# EAGLE library part AT91SAM7X (library at91sam7x-ek)
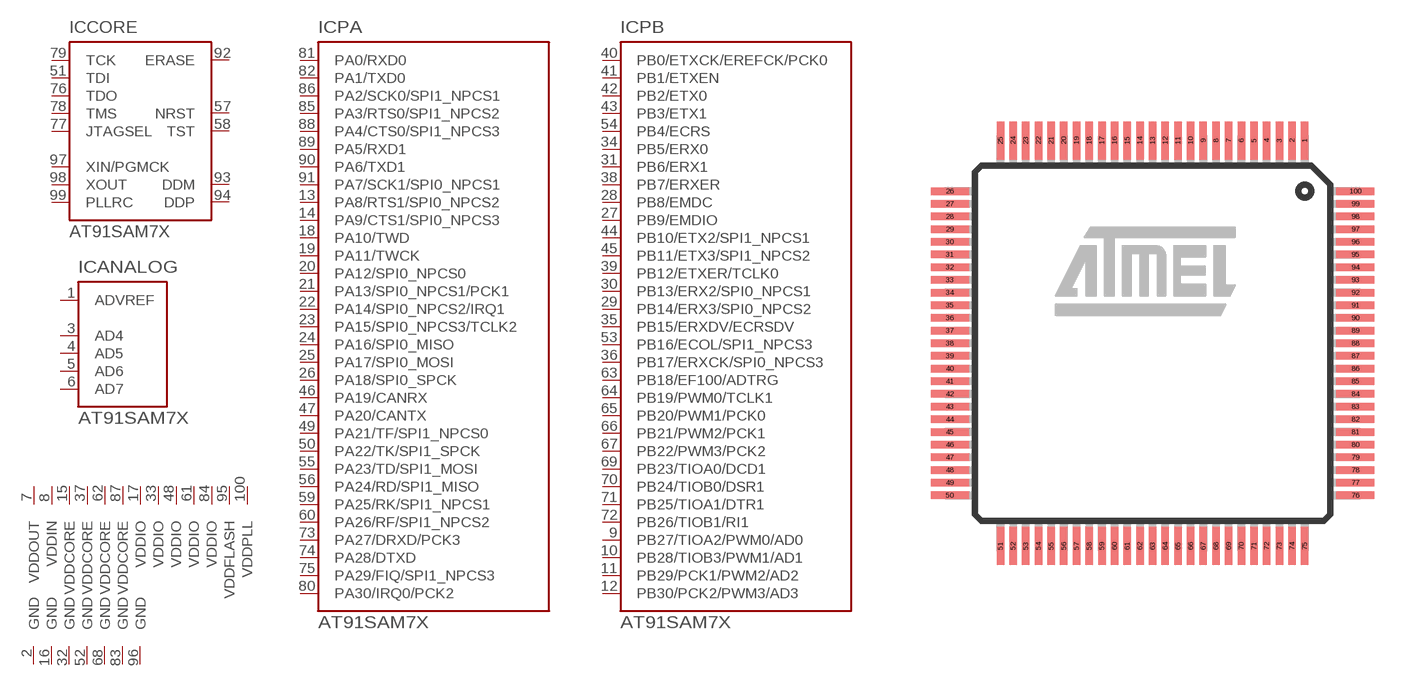
[diagram p0: symbol with the pads of LQFP100; footprint LQFP100]

Designator prefix IC; gates CORE=AT91SAM7X ANALOG=AT91SAM7X-ANALOG PA=AT91SAM7X-PA PB=AT91SAM7X-PB G$5=VDDOUT G$6=VDDIN G$7=VDDCORE G$8=VDDCORE G$9=VDDCORE G$10=VDDCORE G$11=VDDIO G$12=VDDIO G$13=VDDIO G$14=VDDIO G$15=VDDIO G$16=VDDFLASH G$17=VDDPLL G$18=GND G$19=GND G$20=GND G$21=GND G$22=GND G$23=GND G$24=GND

## AT91SAM7X  [LQFP100]
1  ANALOG:ADVREF  in
2  G$18:GND  pwr
3  ANALOG:AD4  in
4  ANALOG:AD5  in
5  ANALOG:AD6  in
6  ANALOG:AD7  in
7  G$5:VDDOUT  pwr
8  G$6:VDDIN  pwr
9  PB:PB27/TIOA2/PWM0/AD0
10  PB:PB28/TIOB3/PWM1/AD1
11  PB:PB29/PCK1/PWM2/AD2
12  PB:PB30/PCK2/PWM3/AD3
13  PA:PA8/RTS1/SPI0_NPCS2
14  PA:PA9/CTS1/SPI0_NPCS3
15  G$7:VDDCORE  pwr
16  G$19:GND  pwr
17  G$11:VDDIO  pwr
18  PA:PA10/TWD
19  PA:PA11/TWCK
20  PA:PA12/SPI0_NPCS0
21  PA:PA13/SPI0_NPCS1/PCK1
22  PA:PA14/SPI0_NPCS2/IRQ1
23  PA:PA15/SPI0_NPCS3/TCLK2
24  PA:PA16/SPI0_MISO
25  PA:PA17/SPI0_MOSI
26  PA:PA18/SPI0_SPCK
27  PB:PB9/EMDIO
28  PB:PB8/EMDC
29  PB:PB14/ERX3/SPI0_NPCS2
30  PB:PB13/ERX2/SPI0_NPCS1
31  PB:PB6/ERX1
32  G$20:GND  pwr
33  G$12:VDDIO  pwr
34  PB:PB5/ERX0
35  PB:PB15/ERXDV/ECRSDV
36  PB:PB17/ERXCK/SPI0_NPCS3
37  G$8:VDDCORE  pwr
38  PB:PB7/ERXER
39  PB:PB12/ETXER/TCLK0
40  PB:PB0/ETXCK/EREFCK/PCK0
41  PB:PB1/ETXEN
42  PB:PB2/ETX0
43  PB:PB3/ETX1
44  PB:PB10/ETX2/SPI1_NPCS1
45  PB:PB11/ETX3/SPI1_NPCS2
46  PA:PA19/CANRX
47  PA:PA20/CANTX
48  G$13:VDDIO  pwr
49  PA:PA21/TF/SPI1_NPCS0
50  PA:PA22/TK/SPI1_SPCK
51  CORE:TDI  in
52  G$21:GND  pwr
53  PB:PB16/ECOL/SPI1_NPCS3
54  PB:PB4/ECRS
55  PA:PA23/TD/SPI1_MOSI
56  PA:PA24/RD/SPI1_MISO
57  CORE:NRST
58  CORE:TST  in
59  PA:PA25/RK/SPI1_NPCS1
60  PA:PA26/RF/SPI1_NPCS2
61  G$14:VDDIO  pwr
62  G$9:VDDCORE  pwr
63  PB:PB18/EF100/ADTRG
64  PB:PB19/PWM0/TCLK1
65  PB:PB20/PWM1/PCK0
66  PB:PB21/PWM2/PCK1
67  PB:PB22/PWM3/PCK2
68  G$22:GND  pwr
69  PB:PB23/TIOA0/DCD1
70  PB:PB24/TIOB0/DSR1
71  PB:PB25/TIOA1/DTR1
72  PB:PB26/TIOB1/RI1
73  PA:PA27/DRXD/PCK3
74  PA:PA28/DTXD
75  PA:PA29/FIQ/SPI1_NPCS3
76  CORE:TDO  out
77  CORE:JTAGSEL  in
78  CORE:TMS  in
79  CORE:TCK  in
80  PA:PA30/IRQ0/PCK2
81  PA:PA0/RXD0
82  PA:PA1/TXD0
83  G$23:GND  pwr
84  G$15:VDDIO  pwr
85  PA:PA3/RTS0/SPI1_NPCS2
86  PA:PA2/SCK0/SPI1_NPCS1
87  G$10:VDDCORE  pwr
88  PA:PA4/CTS0/SPI1_NPCS3
89  PA:PA5/RXD1
90  PA:PA6/TXD1
91  PA:PA7/SCK1/SPI0_NPCS1
92  CORE:ERASE  in
93  CORE:DDM
94  CORE:DDP
95  G$16:VDDFLASH  pwr
96  G$24:GND  pwr
97  CORE:XIN/PGMCK  in
98  CORE:XOUT  out
99  CORE:PLLRC  in
100  G$17:VDDPLL  pwr

## Footprint LQFP100 (pad centres in mm)
100-lead Thin Quad Flat Pack Package Outline
smd 0.297 x 1.5: 1 6,8; 2 5.5,8; 3 5,8; 4 4.5,8; 5 4,8; 6 3.5,8; 7 3,8; 8 2.5,8; 9 2,8; 10 1.5,8; 11 1,8; 12 0.5,8; 13 0,8; 14 -0.5,8; 15 -1,8; 16 -1.5,8; 17 -2,8; 18 -2.5,8; 19 -3,8; 20 -3.5,8; 21 -4,8; 22 -4.5,8; 23 -5,8; 24 -5.5,8; 25 -6,8; 51 -6,-8; 52 -5.5,-8; 53 -5,-8; 54 -4.5,-8; 55 -4,-8; 56 -3.5,-8; 57 -3,-8; 58 -2.5,-8; 59 -2,-8; 60 -1.5,-8; 61 -1,-8; 62 -0.5,-8; 63 0,-8; 64 0.5,-8; 65 1,-8; 66 1.5,-8; 67 2,-8; 68 2.5,-8; 69 3,-8; 70 3.5,-8; 71 4,-8; 72 4.5,-8; 73 5,-8; 74 5.5,-8; 75 6,-8
smd 1.5 x 0.297: 26 -8,6; 27 -8,5.5; 28 -8,5; 29 -8,4.5; 30 -8,4; 31 -8,3.5; 32 -8,3; 33 -8,2.5; 34 -8,2; 35 -8,1.5; 36 -8,1; 37 -8,0.5; 38 -8,0; 39 -8,-0.5; 40 -8,-1; 41 -8,-1.5; 42 -8,-2; 43 -8,-2.5; 44 -8,-3; 45 -8,-3.5; 46 -8,-4; 47 -8,-4.5; 48 -8,-5; 49 -8,-5.5; 50 -8,-6; 76 8,-6; 77 8,-5.5; 78 8,-5; 79 8,-4.5; 80 8,-4; 81 8,-3.5; 82 8,-3; 83 8,-2.5; 84 8,-2; 85 8,-1.5; 86 8,-1; 87 8,-0.5; 88 8,0; 89 8,0.5; 90 8,1; 91 8,1.5; 92 8,2; 93 8,2.5; 94 8,3; 95 8,3.5; 96 8,4; 97 8,4.5; 98 8,5; 99 8,5.5; 100 8,6